# Altium footprint library LM2596.PcbLib: 1 footprints
Each footprint in its own frame and in the unit in brackets; x right, y up, seen from the top. Pads: shape width x height; smd on the part's side, far side on the other; paste and mask are expansions set on the pad; w line width, h text height; cw(c..) or ccw(c..) is an arc to the next point about the centre after c.
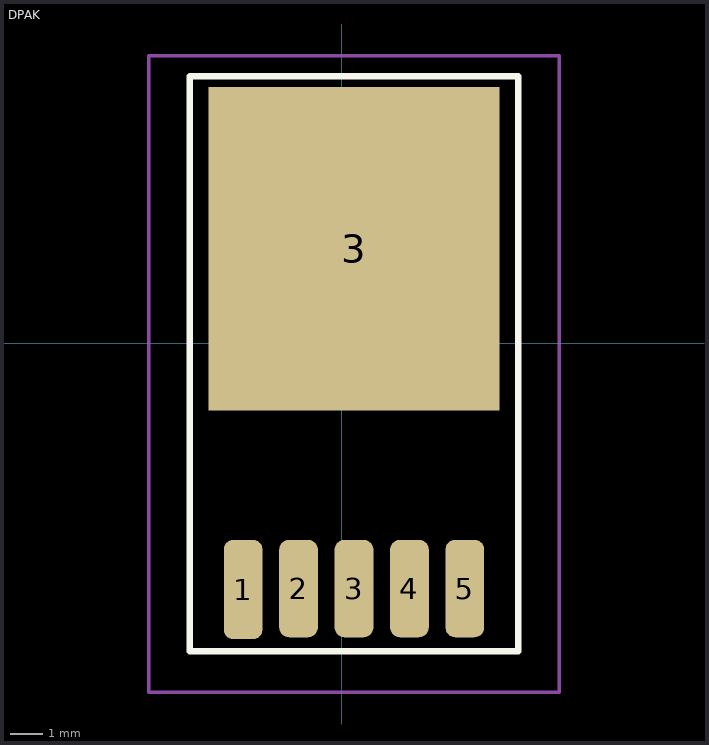
[diagram p0: the footprint, top view; thin cyan lines are the x and y axes]

## DPAK [mm]
pads (6):
  rrect50% 1.2x3.075 smd: 1(-3.048,-7.62)
  rrect50% 1.2x3.015 smd: 2(-1.333,-7.59) 3(0.381,-7.59) 4(2.095,-7.59) 5(3.81,-7.59)
  rect 9x10 smd: 3(0.381,2.921)
Top Overlay:
  lines w0.2: -4.699,-9.525 -4.699,-1.905 -4.699,8.255 5.461,8.255 5.461,-9.525 -4.699,-9.525
Mechanical 15:
  lines w0.1: -1.143,1.27 1.905,1.27 ; 0.381,-0.254 0.381,2.794 ; -5.969,-10.795 -5.969,-0.762 -5.969,8.89 6.731,8.89 6.731,-10.795 -5.969,-10.795
3D body "TO263-5-1.stp": height 4.22, standoff 0, extent -4.53,-8.291 5.292,6.311